# Altium schematic symbol library Kelboy.SchLib: 67 symbols (part 1 of 3)
Pins are listed as number, name and electrical type; pins without a type are passive.

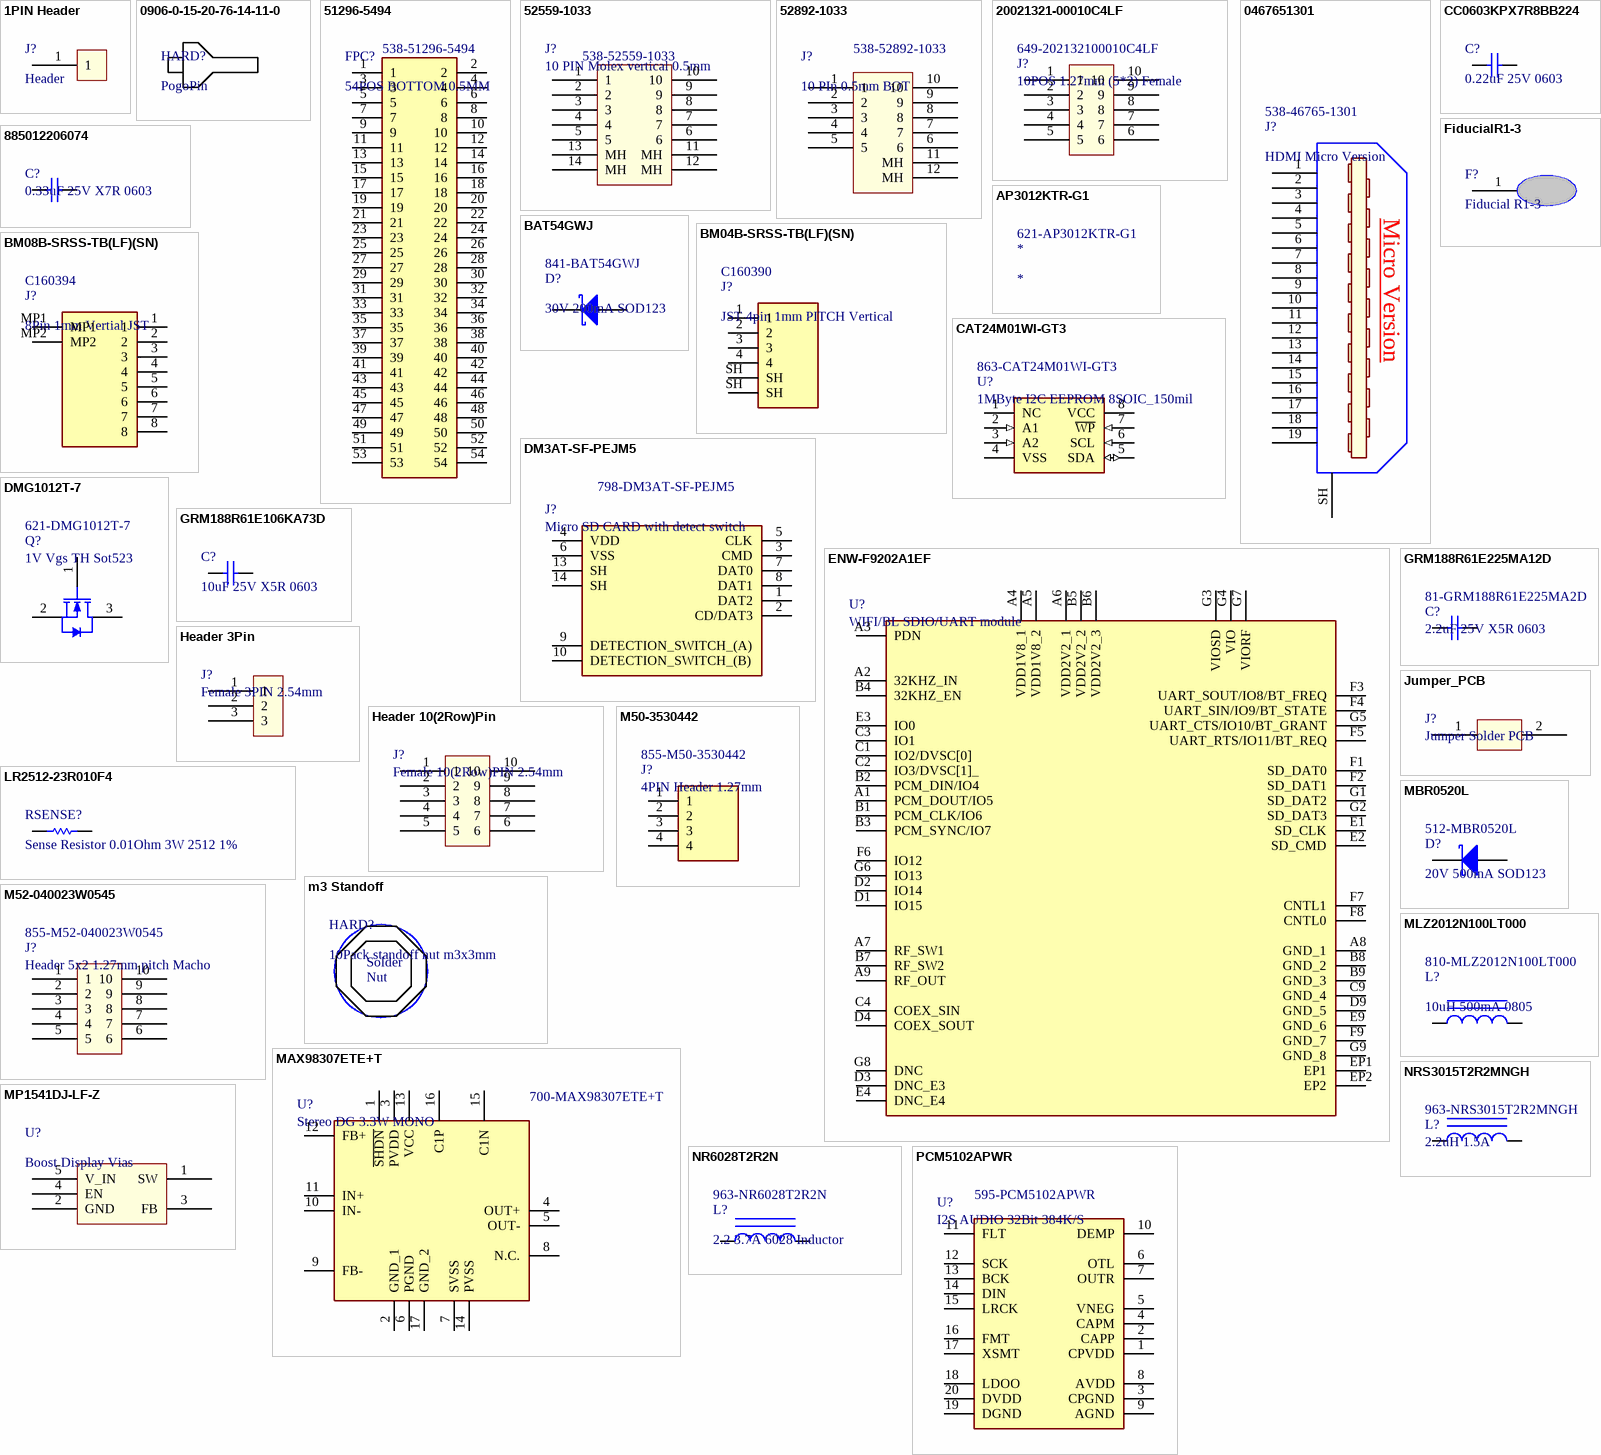
[diagram p0: symbols 1PIN Header to PCM5102APWR]

## 1PIN Header
designator J?, comment Header
footprint Header 2.54mm
pins: 1

## 0906-0-15-20-76-14-11-0
designator HARD?, comment PogoPin
CONN PIN SPRING-LOADED PCB GOLD; Manufacturer 1: Mill-Max; Manufacturer Part Number 1: 0906-0-15-20-76-14-11-0; Body Material: Brass; Current Rating: 2A; Resistance: 20mR; Number of Contacts: 2; Supplier 1: Mouser; Stock 1: 18180; Pricing 1: 1=0.35000, 10=0.35000, 50=0.32000, 100=0.31000, 250=0.29000, 500=0.27000, 1000=0.22900, 2500=0.20800, 10000=0.20800 (USD); RoHS: Yes; Mount: Through Hole; Case/Package: 0906; Contact Material: Copper Alloy; Contact Plating: Gold; Color: Gold; Material: Copper Alloy; Plating: Gold; Packaging: Bulk; Package Quantity: 500; Termination: Solder; Number of Rows: 1; Length: 0.137inch; Height: 0.206inch; REACH SVHC: No SVHC; Lead Free: Contains Lead; ComponentLink1URL: https://datasheet.ciiva.com/16427/0906-0-15-20-76-14-11-0-16427148.pdf?src-supplier=Future+Electronics; ComponentLink1Description: https://datasheet.ciiva.com/16427/0906-0-15-20-76-14-11-0-16427148.pdf?src-supplier=Future+Electronics; ComponentLink2URL: https://datasheet.ciiva.com/16886/70206242-16886092.pdf?src-supplier=Allied+Electronics; ComponentLink2Description: https://datasheet.ciiva.com/16886/70206242-16886092.pdf?src-supplier=Allied+Electronics; Supplier Part Number 1: 575-906015

## 51296-5494
designator FPC?, comment 54POS BOTTOM 0.5MM  Supplier Part Number 1: 538-51296-5494
FFC/FPC, RECEPTACLE, 54WAY - More Details; Manufacturer 1: Molex; Manufacturer Part Number 1: 51296-5494; Number of Contacts: 54; Current Rating: 500mA; Voltage Rating: 50V; Contact Resistance: 40mR; Mating Cycles: 20; Stackable: No; Supplier 1: Mouser; Stock 1: 16594; Pricing 1: 1=2.27000, 10=2.00000, 50=2.00000, 100=1.82000, 1000=1.32000, 10000=1.18000 (USD); RoHS: Yes; Contact Material: Bronze; Contact Plating: Gold; Housing Material: Polymer; Housing Color: Black; Color: Black; Min Operating Temperature: -20°C; Max Operating Temperature: 85°C; Number of Rows: 1; Orientation: Right Angle; Packaging: Tape and Reel; Number of Positions: 54; Termination: Solder; Package Quantity: 3000; Gender: Receptacle; Voltage Rating (DC): 50V; Number of Circuits: 54; Voltage Rating (AC): 50V; Contact Location: Bottom; Length: 30.7mm; Pitch: 0.5mm; Depth: 4.3mm; Radiation Hardening: No; REACH SVHC: Unknown; ComponentLink1URL: https://datasheet.ciiva.com/5137/0512965494-ffc-fpc-connectors-295716-5137504.pdf?src-supplier=Mouser; ComponentLink1Description: https://datasheet.ciiva.com/5137/0512965494-ffc-fpc-connectors-295716-5137504.pdf?src-supplier=Mouser; ComponentLink2URL: https://datasheet.ciiva.com/30258/0512965494-ffc-fpc-connectors-30258898.pdf?src-supplier=Onlinecomponents.com; ComponentLink2Description: https://datasheet.ciiva.com/30258/0512965494-ffc-fpc-connectors-30258898.pdf?src-supplier=Onlinecomponents.com; ComponentLink3URL: https://datasheet.ciiva.com/1438/1597707-1438182.pdf?src-supplier=Element14; ComponentLink3Description: https://datasheet.ciiva.com/1438/1597707-1438182.pdf?src-supplier=Element14; ComponentLink4URL: https://datasheet.ciiva.com/1484/512965494-sd-1484569.pdf?src-supplier=Newark; ComponentLink4Description: https://datasheet.ciiva.com/1484/512965494-sd-1484569.pdf?src-supplier=Newark; ComponentLink5URL: https://datasheet.ciiva.com/26929/getdatasheetpartid-763044-26929868.pdf?src-supplier=Verical; ComponentLink5Description: https://datasheet.ciiva.com/26929/getdatasheetpartid-763044-26929868.pdf?src-supplier=Verical; ComponentLink6URL: https://datasheet.ciiva.com/46408/1747841-46408806.pdf?src-supplier=Element14; ComponentLink6Description: https://datasheet.ciiva.com/46408/1747841-46408806.pdf?src-supplier=Element14; ComponentLink7URL: https://datasheet.ciiva.com/46408/1747841-46408807.pdf?src-supplier=Element14; ComponentLink7Description: https://datasheet.ciiva.com/46408/1747841-46408807.pdf?src-supplier=Element14; ComponentLink8URL: https://datasheet.ciiva.com/1447/1597707-1447164.pdf?src-supplier=Farnell; ComponentLink8Description: https://datasheet.ciiva.com/1447/1597707-1447164.pdf?src-supplier=Farnell; ComponentLink9URL: https://datasheet.ciiva.com/16123/0512965494-ffc-fpc-connectors-16123629.pdf?src-supplier=Onlinecomponents.com; ComponentLink9Description: https://datasheet.ciiva.com/16123/0512965494-ffc-fpc-connectors-16123629.pdf?src-supplier=Onlinecomponents.com
footprint 51296-5494
pins: 1, 2, 3, 4, 5, 6, 7, 8, 9, 10, 11, 12, 13, 14, 15, 16, 17, 18, 19, 20, 21, 22, 23, 24, 25, 26, 27, 28, 29, 30, 31, 32, 33, 34, 35, 36, 37, 38, 39, 40, 41, 42, 43, 44, 45, 46, 47, 48, 49, 50, 51, 52, 53, 54

## 52559-1033
designator J?, comment 10 PIN Molex vertical 0.5mm  Supplier Part Number 1: 538-52559-1033
FFC & FPC Connectors 0.5 FPC ZIF 10Ckt Sn-Ag-Bi; Manufacturer Part Number 1: 52559-1033; Number of Positions: 10; Voltage Rating: 50V; Current Rating: 500mA; Gender: Receptacle; Supplier 1: Mouser; Manufacturer 1: Molex; RoHS: Yes; Category: FFC / FPC; Stock 1: 5448; Pricing 1: 1=1,28000, 10=1,09000, 100=1,00000, 500=0,83300, 1000=0,71400, 2000=0,66700 (USD); Mount: Surface Mount; Contact Material: Bronze,Copper Alloy; Contact Plating: Tin,Silver; Housing Material: Nylon; Min Operating Temperature: -40°C; Max Operating Temperature: 85°C; Orientation: Straight; Termination: SMD/SMT; Packaging: Tape and Reel; Package Quantity: 1000; Number of Rows: 1; Number of Circuits: 10; Pitch: 0.5mm; Flammability Rating: UL94 V-0; REACH SVHC: No SVHC; ComponentLink1URL: https://datasheet.ciiva.com/24132/0525591033-ffc-fpc-connectors-294918-24132579.pdf?src-supplier=Mouser; ComponentLink1Description: https://datasheet.ciiva.com/24132/0525591033-ffc-fpc-connectors-294918-24132579.pdf?src-supplier=Mouser
footprint 52559-1033
pins: 1, 2, 3, 4, 5, 6, 7, 8, 9, 10, 11 MH, 12 MH, 13 MH, 14 MH

## 52892-1033
designator J?, comment 10 PIn 0.5mm BOT  Supplier Part Number 1: 538-52892-1033
Molex Easy-On Series 0.5mm Pitch 10 Way Right Angle FPC Connector, ZIF Bottom Contact; Manufacturer Part Number: 52892-1033; Voltage Rating: 50V; Current Rating: 500mA; Number of Positions: 10; Gender: Receptacle; Stackable: No; Supplier 1: Mouser; Manufacturer: Molex; RoHS: Yes; Category: FFC / FPC; Stock 1: 751; Pricing 1: 1=0,76000, 10=0,64000, 100=0,58400, 500=0,48700, 1000=0,41700, 2000=0,39000 (USD); Housing Material: Nylon; Contact Material: Bronze; Contact Plating: Tin,Silver; Min Operating Temperature: -40°C; Max Operating Temperature: 85°C; Package Quantity: 1000; Number of Rows: 1; Packaging: Tape and Reel; Termination: SMD/SMT; Orientation: Right Angle; Number of Circuits: 10; Contact Location: Bottom; Number of Contacts: 10; Pitch: 0.5mm; Flammability Rating: UL94 V-0; REACH SVHC: Unknown; ComponentLink1URL: https://datasheet.ciiva.com/24132/0528921033-ffc-fpc-connectors-295499-24132707.pdf?src-supplier=Mouser; ComponentLink1Description: https://datasheet.ciiva.com/24132/0528921033-ffc-fpc-connectors-295499-24132707.pdf?src-supplier=Mouser; ComponentLink2URL: https://datasheet.ciiva.com/23963/1752231-23963980.pdf?src-supplier=Newark; ComponentLink2Description: https://datasheet.ciiva.com/23963/1752231-23963980.pdf?src-supplier=Newark
footprint 0528921033
pins: 1, 2, 3, 4, 5, 6, 7, 8, 9, 10, 11 MH, 12 MH

## 20021321-00010C4LF
designator J?, comment 10POS 1.27mm (5*2) Female  Supplier Part Number 1: 649-202132100010C4LF
CONN RCPT 10POS 0.05 GOLD SMD; Manufacturer 1: Amphenol FCI; Manufacturer Part Number 1: 20021321-00010C4LF; Number of Contacts: 10; Contact Resistance: 30mR; Current Rating: 1A; Voltage Rating: 125V; Connector Type: Receptacle,Socket; Gender: Receptacle; Insulation Resistance: 100MR; Row Spacing: 0.05inch; Stack Height: 4.3mm; Supplier 1: Mouser; Stock 1: 948; Pricing 1: 1=0,92000, 10=0,72700, 100=0,69600, 250=0,63200, 700=0,56900, 1400=0,50600, 2100=0,45900 (USD); RoHS: Yes; Mount: Surface Mount; Contact Plating: Gold; Contact Material: Copper,Copper Alloy,Gold; Color: Black; Housing Color: Black; Housing Material: Thermoplastic; Min Operating Temperature: -40°C; Max Operating Temperature: 85°C; Number of Rows: 2; Termination: Solder; Package Quantity: 700; Packaging: Tape and Reel; Number of Positions: 10; Max Voltage Rating (AC): 125V; Orientation: Straight; Length: 13.16mm; Pitch: 1.27mm; Depth: 3mm; REACH SVHC: No SVHC; Lead Free: Lead Free; ComponentLink1URL: https://datasheet.ciiva.com/411/20021321-411104.pdf?src-supplier=Digi-Key; ComponentLink1Description: https://datasheet.ciiva.com/411/20021321-411104.pdf?src-supplier=Digi-Key; ComponentLink2URL: https://datasheet.ciiva.com/11747/0900766b8118d62a-11747747.pdf?src-supplier=RSComponents; ComponentLink2Description: https://datasheet.ciiva.com/11747/0900766b8118d62a-11747747.pdf?src-supplier=RSComponents; ComponentLink3URL: https://datasheet.ciiva.com/30492/0900766b812a317f-30492469.pdf?src-supplier=RSComponents; ComponentLink3Description: https://datasheet.ciiva.com/30492/0900766b812a317f-30492469.pdf?src-supplier=RSComponents; ComponentLink4URL: https://datasheet.ciiva.com/1433/789047-1433379.pdf?src-supplier=Element14; ComponentLink4Description: https://datasheet.ciiva.com/1433/789047-1433379.pdf?src-supplier=Element14; ComponentLink5URL: https://datasheet.ciiva.com/10140/20021321-10140677.pdf?src-supplier=Avnet; ComponentLink5Description: https://datasheet.ciiva.com/10140/20021321-10140677.pdf?src-supplier=Avnet; ComponentLink6URL: https://datasheet.ciiva.com/15219/getdatasheetpartid-177147-15219436.pdf?src-supplier=Verical; ComponentLink6Description: https://datasheet.ciiva.com/15219/getdatasheetpartid-177147-15219436.pdf?src-supplier=Verical; ComponentLink7URL: https://datasheet.ciiva.com/411/20021321-411102.pdf?src-supplier=Digi-Key; ComponentLink7Description: https://datasheet.ciiva.com/411/20021321-411102.pdf?src-supplier=Digi-Key; ComponentLink8URL: https://datasheet.ciiva.com/411/20021321-411103.pdf?src-supplier=Digi-Key; ComponentLink8Description: https://datasheet.ciiva.com/411/20021321-411103.pdf?src-supplier=Digi-Key
footprint 2002132100010C4LF
pins: 1, 2, 3, 4, 5, 6, 7, 8, 9, 10

## 0467651301
designator J?, comment HDMI Micro Version  Supplier Part Number 1: 538-46765-1301
GLOVE, POLYAMIDE, L/FREE, PU, SIZE 6 - More Details; Manufacturer: Molex; Manufacturer Part Number: 0467651301; Gender: Receptacle; Number of Contacts: 19; Number of Ports: 1; Pitch: 0.4mm; Supplier 1: Mouser; RoHS: Yes; Category: Connectors; Stock 1: 7759; Mount: Surface Mount,Horizontal; Contact Material: Copper Alloy; Contact Plating: Gold; Housing Material: Thermoplastic; Number of Terminals: 19; Package Quantity: 1000; Orientation: Right Angle; Termination: Solder; Packaging: Tape and Reel; Connector Type: HDMI; Features: Shielded; Length: 6.5mm; Depth: 7.5mm; Radiation Hardening: No; ComponentLink1URL: https://datasheet.ciiva.com/2944/467651301-sd-2944003.pdf?src-supplier=Digi-Key; ComponentLink1Description: https://datasheet.ciiva.com/2944/467651301-sd-2944003.pdf?src-supplier=Digi-Key; ComponentLink2URL: https://datasheet.ciiva.com/10945/0467651301-io-connectors-10945127.pdf?src-supplier=Avnet; ComponentLink2Description: https://datasheet.ciiva.com/10945/0467651301-io-connectors-10945127.pdf?src-supplier=Avnet; ComponentLink3URL: https://datasheet.ciiva.com/16468/0467651301-io-connectors-16468205.pdf?src-supplier=Avnet+Asia; ComponentLink3Description: https://datasheet.ciiva.com/16468/0467651301-io-connectors-16468205.pdf?src-supplier=Avnet+Asia
footprint 46765-1301
pins: 1 P1, 2 P2, 3 P3, 4 P4, 5 P5, 6 P6, 7 P7, 8 P8, 9 P9, 10 P10, 11 P11, 12 P12, 13 P13, 14 P14, 15 P15, 16 P16, 17 P17, 18 P18, 19 P19, SH
text: Micro Version

## 885012206074
designator C?, comment 0.33uF 25V X7R 0603
CAP CER 0.33UF 25V X7R 0603; Manufacturer 1: Wurth Electronics; Manufacturer Part Number 1: 885012206074; Capacitance: 330nF; Tolerance: 10%; Supplier 1: Mouser; RoHS: Yes; Category: Ceramic Capacitors; Stock 1: 4921; Pricing 1: 1=0,10000, 10=0,08100, 25=0,08100, 50=0,08100, 100=0,07300, 250=0,07300 (USD); Mount: Surface Mount; Case/Package: 0603; Case Code (Metric): 1608; Case Code (Imperial): 0603; Min Operating Temperature: -55°C; Max Operating Temperature: 125°C; Packaging: Tape and Reel; Voltage Rating: 25V; Length: 0.063inch; Width: 0.031inch; Thickness: 0.037inch; ComponentLink1URL: http://www.farnell.com/datasheets/2031845.pdf?src-supplier=Farnell; ComponentLink1Description: http://www.farnell.com/datasheets/2031845.pdf?src-supplier=Farnell; ComponentLink2URL: https://katalog.we-online.de/pbs/datasheet/885012206074.pdf?src-supplier=Digi-Key; ComponentLink2Description: https://katalog.we-online.de/pbs/datasheet/885012206074.pdf?src-supplier=Digi-Key; ComponentLink3URL: http://www.farnell.com/datasheets/2031845.pdf?src-supplier=Newark; ComponentLink3Description: http://www.farnell.com/datasheets/2031845.pdf?src-supplier=Newark; Supplier Part Number 1: 710-885012206074
footprint C 0603/1608
pins: 1, 2

## AP3012KTR-G1
designator *  Supplier Part Number 1: 621-AP3012KTR-G1
IC REG BOOST ADJ 0.5A SOT25; Manufacturer 1: Diodes; Manufacturer Part Number 1: AP3012KTR-G1; Number of Outputs: 1; Max Output Current: 500mA; Min Input Voltage: 2.6V; Max Input Voltage: 16V; Efficiency: 85%; Min Output Voltage: 1.25V; Max Output Voltage: 29V; Switching Frequency: 1.5MHz; Synchronous Rectifier: No; Operating Supply Current: 100nA; Min Supply Voltage: 1V; Output Type: Adjustable; Output Configuration: Positive; Supplier 1: Mouser; Stock 1: 41607; Pricing 1: 1=0.47000, 10=0.35500, 50=0.35500, 100=0.19200, 1000=0.14400, 3000=0.12400, 9000=0.11600, 10000=0.11600 (USD); RoHS: Yes; Mount: Surface Mount; Case/Package: SOT-23-5; Number of Pins: 5; Weight: 0.001058oz; Min Operating Temperature: -40°C; Max Operating Temperature: 85°C; Packaging: Tape and Reel; Package Quantity: 3000; Output Current: 500mA; Output Voltage: 29V; Topology: Boost; Operating Supply Voltage: 16V; Lead Free: Lead Free; ComponentLink1URL: https://datasheet.ciiva.com/29885/ap3012-29885792.pdf?src-supplier=Avnet; ComponentLink1Description: https://datasheet.ciiva.com/29885/ap3012-29885792.pdf?src-supplier=Avnet; ComponentLink2URL: https://datasheet.ciiva.com/29735/ap3012-29735077.pdf?src-supplier=Digi-Key; ComponentLink2Description: https://datasheet.ciiva.com/29735/ap3012-29735077.pdf?src-supplier=Digi-Key; ComponentLink3URL: https://datasheet.ciiva.com/29735/ap3012-29735068.pdf?src-supplier=Digi-Key; ComponentLink3Description: https://datasheet.ciiva.com/29735/ap3012-29735068.pdf?src-supplier=Digi-Key

## BAT54GWJ
designator D?, comment 30V 200mA SOD123  Supplier Part Number 1: 841-BAT54GWJ
DIODE SCHOTTKY 30V 200MA SOD123; Manufacturer 1: Nexperia USA; Manufacturer Part Number 1: BAT54GWJ; Supplier 1: Mouser; Stock 1: 45651; Pricing 1: 1=0.14000, 10=0.12500, 50=0.12500, 100=0.04400, 1000=0.03000, 2500=0.02300, 10000=0.02000, 20000=0.01800, 50000=0.01600, 100000=0.01300 (USD); RoHS: No; ComponentLink1URL: https://assets.nexperia.com/documents/data-sheet/BAT54GW.pdf?src-supplier=Digi-Key; ComponentLink1Description: https://assets.nexperia.com/documents/data-sheet/BAT54GW.pdf?src-supplier=Digi-Key
footprint SOD-123
pins: 1 K, 2 A

## BM04B-SRSS-TB(LF)(SN)
designator J?, comment JST 4pin 1mm PITCH Vertical  Supplier Part Number 1: C160390
CONN HEADER SMD 4POS 1MM; Manufacturer Part Number: BM04B-SRSS-TB(LF)(SN); Connector Type: Male Pin; Number of Positions: 4; Current Rating: 1A; Insulation Resistance: 100MR; Max Voltage Rating (AC): 50V; Gender: Male; Contact Resistance: 40mR; Pitch: 0.039inch; Supplier 1: LCSC; Manufacturer: JST; RoHS: Yes; Category: Connectors; Stock 1: 26755; Pricing 1: 1=0,24290, 10=0,17350, 30=0,16100, 100=0,14850, 500=0,14020, 1000=0,13880, 1=0,22820, 10=0,16300, 30=0,15130, 100=0,13960, 500=0,13170, 1000=0,13040, 1=1,18090, 10=0,84350, 30=0,78280, 100=0,72200, 500=0,68150, 1000=0,67480, 1=1,10690, 10=0,79070, 30=0,73370, 100=0,67680, 500=0,63890, 1000=0,63250, 1=0,14850, 10=0,10610, 30=0,09850, 100=0,09080, 500=0,08570, 1000=0,08490, 1=0,13570, 10=0,09700, 30=0,09000, 100=0,08300, 500=0,07830, 1000=0,07760, 1=1,29470, 10=0,92480, 30=0,85820, 100=0,79160, 500=0,74720, 1000=0,73980, 1=17,98870, 10=12,84910, 30=11,92400, 100=10,99880, 500=10,38210, 1000=10,27940, 1=0,71530, 10=0,51090, 30=0,47410, 100=0,43730, 500=0,41280, 1000=0,40870, 1=11,69450, 10=8,35320, 30=7,75180, 100=7,15030, 500=6,74940, 1000=6,68260, 1=1,55810, 10=1,11290, 30=1,03280, 100=0,95270, 500=0,89920, 1000=0,89030, 1=0,23270, 10=0,16620, 30=0,15430, 100=0,14230, 500=0,13430, 1000=0,13300, 1=0,16705, 10=0,11932, 30=0,11073, 100=0,10214, 500=0,09641, 1000=0,09546 (AUD); Mount: Surface Mount; Contact Plating: Tin,Lead,Copper; Contact Material: Copper Alloy; Color: Natural; Housing Material: Polyamide; Housing Color: Beige; Material: Polyamide; Min Operating Temperature: -25°C; Max Operating Temperature: 85°C; Termination: Solder; Number of Rows: 1; Orientation: Straight; Number of Contacts: 4; Packaging: Tape and Reel; Max Voltage Rating (DC): 50V; Voltage Rating (AC): 50V; Max Current Rating: 1A; Length: 6mm; Depth: 2.9mm; Lead Pitch: 1mm; Lead Free: Lead Free; Flammability Rating: UL94 V-0; REACH SVHC: No SVHC; ComponentLink1URL: https://datasheet.ciiva.com/26894/getdatasheetpartid-690899-26894827.pdf?src-supplier=Verical; ComponentLink1Description: https://datasheet.ciiva.com/26894/getdatasheetpartid-690899-26894827.pdf?src-supplier=Verical; ComponentLink2URL: https://datasheet.ciiva.com/26924/getdatasheetpartid-708793-26924043.pdf?src-supplier=Verical; ComponentLink2Description: https://datasheet.ciiva.com/26924/getdatasheetpartid-708793-26924043.pdf?src-supplier=Verical; ComponentLink3URL: https://datasheet.ciiva.com/16211/esr-16211085.pdf?src-supplier=Future+Electronics; ComponentLink3Description: https://datasheet.ciiva.com/16211/esr-16211085.pdf?src-supplier=Future+Electronics
footprint BM04B-SRSS-TB(LF)(SN)
pins: 1, 2, 3, 4, SH, SH

## BM08B-SRSS-TB(LF)(SN)
designator J?, comment 8Pin 1mm Vertial JST  Supplier Part Number 1: C160394
JST (JAPAN SOLDERLESS TERMINALS) - BM08B-SRSS-TB(LF)(SN) - Wire-To-Board Connector, 1 mm, 8 Contacts, Header, SH Series, Surface Mount, 1 Rows; Number of Contacts: 8; Voltage Rating: 50V; Connector Type: Header,Male Pin; Current Rating: 700mA; Contact Resistance: 40mR; Max Current Rating: 1A; Gender: Male; Insulation Resistance: 100MR; Pitch: 0.039inch; Supplier 1: LCSC; Manufacturer: JST; Manufacturer Part Number: BM08B-SRSS-TB(LF)(SN); RoHS: Yes; Category: Headers and Wire Housings; Stock 1: 70292; Pricing 1: 1=0,42400, 10=0,30620, 30=0,28500, 100=0,26380, 500=0,24970, 1000=0,24730, 1=0,40380, 10=0,29160, 30=0,27140, 100=0,25130, 500=0,23780, 1000=0,23560, 1=2,07910, 10=1,50150, 30=1,39760, 100=1,29370, 500=1,22440, 1000=1,21280, 1=1,93890, 10=1,40030, 30=1,30340, 100=1,20650, 500=1,14180, 1000=1,13110, 1=0,26040, 10=0,18800, 30=0,17500, 100=0,16200, 500=0,15330, 1000=0,15190, 1=0,23610, 10=0,17050, 30=0,15870, 100=0,14690, 500=0,13910, 1000=0,13770, 1=2,30240, 10=1,66280, 30=1,54770, 100=1,43260, 500=1,35590, 1000=1,34310, 1=31,85760, 10=23,00790, 30=21,41530, 100=19,82270, 500=18,76100, 1000=18,58400, 1=1,26650, 10=0,91470, 30=0,85130, 100=0,78800, 500=0,74580, 1000=0,73880, 1=21,06550, 10=15,21380, 30=14,16070, 100=13,10760, 500=12,40550, 1000=12,28850, 1=2,69630, 10=1,94730, 30=1,81250, 100=1,67770, 500=1,58790, 1000=1,57290, 1=0,41310, 10=0,29840, 30=0,27770, 100=0,25710, 500=0,24330, 1000=0,24100, 1=0,29705, 10=0,21453, 30=0,19968, 100=0,18483, 500=0,17493, 1000=0,17328 (AUD); Mount: Surface Mount; Contact Material: Copper Alloy; Housing Color: Beige; Housing Material: Polyamide; Color: Natural; Contact Plating: Tin,Copper,Lead; Contact Shape: Square; Insulation Material: Nylon; Insulation Color: Natural; Material: Polyamide; Min Operating Temperature: -25°C; Max Operating Temperature: 85°C; Orientation: Straight; Number of Rows: 1; Termination: Solder; Packaging: Tape and Reel; Number of Positions: 8; Fastening Type: Push,Pull; Voltage Rating (AC): 50V; Max Voltage Rating (AC): 50V; Length: 10mm; Lead Pitch: 1mm; Depth: 2.9mm; Lead Free: Lead Free; Flammability Rating: UL94 V-0; REACH SVHC: No SVHC; ComponentLink1URL: https://datasheet.ciiva.com/26894/getdatasheetpartid-640965-26894529.pdf?src-supplier=Verical; ComponentLink1Description: https://datasheet.ciiva.com/26894/getdatasheetpartid-640965-26894529.pdf?src-supplier=Verical; ComponentLink2URL: https://datasheet.ciiva.com/730/esr-730608.pdf?src-supplier=Digi-Key; ComponentLink2Description: https://datasheet.ciiva.com/730/esr-730608.pdf?src-supplier=Digi-Key; ComponentLink3URL: https://datasheet.ciiva.com/712/esr-712616.pdf?src-supplier=Digi-Key; ComponentLink3Description: https://datasheet.ciiva.com/712/esr-712616.pdf?src-supplier=Digi-Key; ComponentLink4URL: https://datasheet.ciiva.com/712/esr-712617.pdf?src-supplier=Digi-Key; ComponentLink4Description: https://datasheet.ciiva.com/712/esr-712617.pdf?src-supplier=Digi-Key; ComponentLink5URL: https://datasheet.ciiva.com/8052/91630-8052091.pdf?src-supplier=Element14; ComponentLink5Description: https://datasheet.ciiva.com/8052/91630-8052091.pdf?src-supplier=Element14; ComponentLink6URL: https://datasheet.ciiva.com/16380/esr-16380526.pdf?src-supplier=Future+Electronics; ComponentLink6Description: https://datasheet.ciiva.com/16380/esr-16380526.pdf?src-supplier=Future+Electronics
footprint BM08BSRSSTBLFSN
pins: 1, 2, 3, 4, 5, 6, 7, 8, MP1, MP2

## CAT24M01WI-GT3
designator U?, comment 1MByte I2C EEPROM 8SOIC_150mil  Supplier Part Number 1: 863-CAT24M01WI-GT3
IC EEPROM 1M I2C 1MHZ 8SOIC; Manufacturer 1: ON Semiconductor; Manufacturer Part Number 1: CAT24M01WI-GT3; Access Time: 3500ns; Interface: I2C,Serial,2-Wire; Max Supply Voltage: 5.5V; Min Supply Voltage: 1.8V; Nominal Supply Current: 5mA; Density: 1Mb; Number of Words: 128000; Max Frequency: 400kHz; Supplier 1: Mouser; RoHS: Yes; Category: EEPROM; Stock 1: 4192; Pricing 1: 1=1,32000, 10=1,12000, 100=0,86500, 500=0,76400, 1000=0,60300, 3000=0,53500 (USD); Mount: Surface Mount; Case/Package: SOIC; Number of Pins: 8; Contact Plating: Gold; Min Operating Temperature: -40°C; Max Operating Temperature: 85°C; Packaging: Tape and Reel; Frequency: 1MHz; Package Quantity: 1; Memory Size: 1Mb; Memory Type: EEPROM; Length: 5mm; Height: 1.5mm; Width: 4mm; Radiation Hardening: No; REACH SVHC: No SVHC; Lead Free: Lead Free; Halogen Free: Halogen Free; ComponentLink1URL: https://datasheet.ciiva.com/4860/cat24m01-d-91485-4860161.pdf?src-supplier=Mouser; ComponentLink1Description: https://datasheet.ciiva.com/4860/cat24m01-d-91485-4860161.pdf?src-supplier=Mouser; ComponentLink2URL: https://datasheet.ciiva.com/9282/cat24m01-d-9282465.pdf?src-supplier=Avnet; ComponentLink2Description: https://datasheet.ciiva.com/9282/cat24m01-d-9282465.pdf?src-supplier=Avnet; ComponentLink3URL: https://datasheet.ciiva.com/15123/getdatasheetpartid-494748-15123685.pdf?src-supplier=Verical; ComponentLink3Description: https://datasheet.ciiva.com/15123/getdatasheetpartid-494748-15123685.pdf?src-supplier=Verical; ComponentLink4URL: https://datasheet.ciiva.com/25627/0900766b810de29e-25627741.pdf?src-supplier=RSComponents; ComponentLink4Description: https://datasheet.ciiva.com/25627/0900766b810de29e-25627741.pdf?src-supplier=RSComponents; ComponentLink5URL: https://datasheet.ciiva.com/1905/cat24m01-d-1905206.pdf?src-supplier=Digi-Key; ComponentLink5Description: https://datasheet.ciiva.com/1905/cat24m01-d-1905206.pdf?src-supplier=Digi-Key; ComponentLink6URL: https://datasheet.ciiva.com/1905/cat24m01-d-1905207.pdf?src-supplier=Digi-Key; ComponentLink6Description: https://datasheet.ciiva.com/1905/cat24m01-d-1905207.pdf?src-supplier=Digi-Key; ComponentLink7URL: https://datasheet.ciiva.com/1905/cat24m01-d-1905208.pdf?src-supplier=Digi-Key; ComponentLink7Description: https://datasheet.ciiva.com/1905/cat24m01-d-1905208.pdf?src-supplier=Digi-Key; ComponentLink8URL: https://datasheet.ciiva.com/26216/cat24m01-d-26216681.pdf?src-supplier=Avnet+Europe; ComponentLink8Description: https://datasheet.ciiva.com/26216/cat24m01-d-26216681.pdf?src-supplier=Avnet+Europe; ComponentLink9URL: https://datasheet.ciiva.com/5819/1678492-5819613.pdf?src-supplier=Farnell; ComponentLink9Description: https://datasheet.ciiva.com/5819/1678492-5819613.pdf?src-supplier=Farnell; ComponentLink10URL: https://datasheet.ciiva.com/16380/cat24m01-d-16380927.pdf?src-supplier=Future+Electronics; ComponentLink10Description: https://datasheet.ciiva.com/16380/cat24m01-d-16380927.pdf?src-supplier=Future+Electronics
footprint SOIC-8_150mil (Footprint not found)
pins: 1 NC, 2 A1 (in), 3 A2 (in), 4 VSS (power), 5 SDA (io), 6 SCL (in), 7 ~{WP} (in), 8 VCC (power)

## CC0603KPX7R8BB224
designator C?, comment 0.22uF 25V 0603
Condensadores de cerámica multicapa (MLCC- SMD/SMT) 0.22uF 10% 25V High Capacitance; Manufacturer 1: Yageo; Manufacturer Part Number 1: CC0603KPX7R8BB224; Dielectric: X7R; Capacitance: 220nF; Supplier 1: Mouser; Stock 1: 14370; Pricing 1: 1=0.17000, 10=0.08700, 50=0.08700, 100=0.03900, 1000=0.03200, 10000=0.02200 (USD); RoHS: No; Case/Package: 0603; Voltage Rating (DC): 25V; Tolerance: 10%; Lead Free: Lead Free; Halogen Free: Halogen Free; Supplier Part Number 1: 603-CC0603KPX78BB224
footprint C 0603/1608
pins: 1, 2

## DM3AT-SF-PEJM5
designator J?, comment Micro SD CARD with detect switch  Supplier Part Number 1: 798-DM3AT-SF-PEJM5
CONN MICRO SD CARD PUSH-PUSH R/A; Manufacturer 1: Hirose; Manufacturer Part Number 1: DM3AT-SF-PEJM5; Connector Type: Connector; Number of Contacts: 8; Current Rating: 500mA; Voltage Rating: 125V; Gender: Female; Pitch: 1.1mm; Supplier 1: Mouser; RoHS: Yes; Category: Card Edge Connectors; Stock 1: 5089; Pricing 1: 1=2,61000, 10=2,32000, 25=2,13000, 100=2,03000, 250=1,84000, 500=1,69000 (USD); Mount: Surface Mount,Standard; Contact Plating: Gold; Contact Material: Copper Alloy; Housing Material: Polymer; Min Operating Temperature: -25°C; Max Operating Temperature: 85°C; Packaging: Tape and Reel; Number of Rows: 1; Package Quantity: 1; Orientation: Right Angle; Termination: SMD/SMT; Max Current Rating: 500mA; Max Voltage Rating (AC): 125V; Number of Positions: 8; Length: 15.95mm; Height: 1.68mm; Width: 13.85mm; Depth: 15.95mm; Radiation Hardening: No; Flammability Rating: UL94 V-0; REACH SVHC: No SVHC; Lead Free: Lead Free; ComponentLink1URL: https://datasheet.ciiva.com/683/e60900232-683393.pdf?src-supplier=Digi-Key; ComponentLink1Description: https://datasheet.ciiva.com/683/e60900232-683393.pdf?src-supplier=Digi-Key; ComponentLink2URL: https://datasheet.ciiva.com/683/e60900232-683394.pdf?src-supplier=Digi-Key; ComponentLink2Description: https://datasheet.ciiva.com/683/e60900232-683394.pdf?src-supplier=Digi-Key; ComponentLink3URL: https://datasheet.ciiva.com/683/e60900232-683395.pdf?src-supplier=Digi-Key; ComponentLink3Description: https://datasheet.ciiva.com/683/e60900232-683395.pdf?src-supplier=Digi-Key; ComponentLink4URL: https://datasheet.ciiva.com/46418/1697167-46418261.pdf?src-supplier=Element14; ComponentLink4Description: https://datasheet.ciiva.com/46418/1697167-46418261.pdf?src-supplier=Element14; ComponentLink5URL: https://datasheet.ciiva.com/3122/e60900232-3122534.pdf?src-supplier=Avnet; ComponentLink5Description: https://datasheet.ciiva.com/3122/e60900232-3122534.pdf?src-supplier=Avnet; ComponentLink6URL: https://datasheet.ciiva.com/46418/1697167-46418262.pdf?src-supplier=Element14; ComponentLink6Description: https://datasheet.ciiva.com/46418/1697167-46418262.pdf?src-supplier=Element14; ComponentLink7URL: https://datasheet.ciiva.com/16205/e60900232-16205727.pdf?src-supplier=Future+Electronics; ComponentLink7Description: https://datasheet.ciiva.com/16205/e60900232-16205727.pdf?src-supplier=Future+Electronics
footprint DM3AT-SF-PEJM5_1
pins: 1 DAT2, 2 CD/DAT3, 3 CMD, 4 VDD, 5 CLK, 6 VSS, 7 DAT0, 8 DAT1, 9 DETECTION_SWITCH_(A), 10 DETECTION_SWITCH_(B), 13 SH, 14 SH

## DMG1012T-7
designator Q?, comment 1V Vgs TH Sot523  Supplier Part Number 1: 621-DMG1012T-7
MOSFET N-CH 20V 630MA SOT-523; Manufacturer 1: Diodes; Manufacturer Part Number 1: DMG1012T-7; Rds On Max: 400mR; Input Capacitance: 60.67pF; Max Power Dissipation: 280mW; Rise Time: 7.4ns; Fall Time: 12.3ns; Turn-On Delay Time: 5.1ns; Turn-Off Delay Time: 26.7ns; Gate to Source Voltage (Vgs): 6V; Number of Elements: 1; Drain to Source Resistance: 300mR; Element Configuration: Single; FET Type: 1 N-Channel; Supplier 1: Mouser; RoHS: Yes; Category: MOSFETs; Stock 1: 505154; Pricing 1: 1=0,29000, 10=0,19800, 100=0,08300, 1000=0,05700, 3000=0,04400, 9000=0,03800 (USD); Mount: Surface Mount; Case/Package: SOT-523; Number of Pins: 3; Weight: 7.1E-05oz; Contact Plating: Tin,Matte; Min Operating Temperature: -55°C; Max Operating Temperature: 150°C; Continuous Drain Current (ID): 630mA; Packaging: Tape and Reel; Drain to Source Voltage (Vdss): 20V; Package Quantity: 3000; Drain to Source Breakdown Voltage: 20V; Power Dissipation: 280mW; Number of Channels: 1; Threshold Voltage: 1V; On-State Resistance: 400MR; Length: 1.7mm; Height: 0.8mm; Width: 0.85mm; Radiation Hardening: No; REACH SVHC: No SVHC; Lead Free: Lead Free; ComponentLink1URL: https://datasheet.ciiva.com/934/ds31783-934512.pdf?src-supplier=Digi-Key; ComponentLink1Description: https://datasheet.ciiva.com/934/ds31783-934512.pdf?src-supplier=Digi-Key; ComponentLink2URL: https://datasheet.ciiva.com/4442/ds31783-44973-4442944.pdf?src-supplier=Mouser; ComponentLink2Description: https://datasheet.ciiva.com/4442/ds31783-44973-4442944.pdf?src-supplier=Mouser; ComponentLink3URL: https://datasheet.ciiva.com/11174/ds31783-11174965.pdf?src-supplier=Avnet; ComponentLink3Description: https://datasheet.ciiva.com/11174/ds31783-11174965.pdf?src-supplier=Avnet; ComponentLink4URL: https://datasheet.ciiva.com/17324/ds31783-17324010.pdf?src-supplier=Avnet+Europe; ComponentLink4Description: https://datasheet.ciiva.com/17324/ds31783-17324010.pdf?src-supplier=Avnet+Europe; ComponentLink5URL: https://datasheet.ciiva.com/6383/ds31783-6383803.pdf?src-supplier=Digi-Key; ComponentLink5Description: https://datasheet.ciiva.com/6383/ds31783-6383803.pdf?src-supplier=Digi-Key; ComponentLink6URL: https://datasheet.ciiva.com/934/ds31783-934511.pdf?src-supplier=Digi-Key; ComponentLink6Description: https://datasheet.ciiva.com/934/ds31783-934511.pdf?src-supplier=Digi-Key
footprint SOT-523-3
pins: 1 G, 2 S, 3 D

## ENW-F9202A1EF
designator U?, comment WIFI/BL SDIO/UART module
PAN9026, WI-FI DUAL BAND 2.4/5 G; Manufacturer 1: Panasonic; Manufacturer Part Number 1: ENW-F9202A1EF; Interface: UART; Frequency: 5GHz; Data Rate: 150Mbps; Sensitivity: -98dBm; Current - Receiving: 70mA; Current - Transmitting: 400mA; Supplier 1: Mouser; Stock 1: 199; Pricing 1: 1=17,32000, 5=16,96000, 10=15,98000, 25=14,58000, 50=14,07000, 100=13,42000, 250=12,80000, 500=12,12000, 1000=11,13000, 10000=12,12000 (USD); RoHS: No; Mount: Surface Mount; Case/Package: SMD/SMT; Min Operating Temperature: -30°C; Max Operating Temperature: 85°C; ComponentLink1URL: https://media.digikey.com/pdf/Data%20Sheets/Panasonic%20Semiconductors%20ICs%20PDFs/PAN9026_Series_Rev1.0.pdf?src-supplier=Digi-Key; ComponentLink1Description: https://media.digikey.com/pdf/Data%20Sheets/Panasonic%20Semiconductors%20ICs%20PDFs/PAN9026_Series_Rev1.0.pdf?src-supplier=Digi-Key; Supplier Part Number 1: 667-ENW-F9202A1EF
footprint ENWF9201A1EF
pins: A1 PCM_DOUT/IO5, A2 32KHZ_IN, A3 PDN, A4 VDD1V8_1, A5 VDD1V8_2, A6 VDD2V2_1, A7 RF_SW1, A8 GND_1, A9 RF_OUT, B1 PCM_CLK/IO6, B2 PCM_DIN/IO4, B3 PCM_SYNC/IO7, B4 32KHZ_EN, B5 VDD2V2_2, B6 VDD2V2_3, B7 RF_SW2, B8 GND_2, B9 GND_3, C1 IO2/DVSC[0], C2 IO3/DVSC[1]_, C3 IO1, C4 COEX_SIN, C9 GND_4, D1 IO15, D2 IO14, D3 DNC_E3, D4 COEX_SOUT, D9 GND_5, E1 SD_CLK, E2 SD_CMD, E3 IO0, E4 DNC_E4, E9 GND_6, EP1, EP2, F1 SD_DAT0, F2 SD_DAT1, F3 UART_SOUT/IO8/BT_FREQ, F4 UART_SIN/IO9/BT_STATE, F5 UART_RTS/IO11/BT_REQ, F6 IO12, F7 CNTL1, F8 CNTL0, F9 GND_7, G1 SD_DAT2, G2 SD_DAT3, G3 VIOSD, G4 VIO, G5 UART_CTS/IO10/BT_GRANT, G6 IO13, G7 VIORF, G8 DNC, G9 GND_8

## FiducialR1-3
designator F?, comment Fiducial R1-3  (no BOM)
Fiducial 1mm 3 mm of peel mask
footprint Fiducial R1-3
pins: 1

## GRM188R61E106KA73D
designator C?, comment 10uF 25V X5R 0603
Cap Ceramic 10uF 25V X5R 10% SMD 0603 85°C Paper T/R; Manufacturer 1: Murata; Manufacturer Part Number 1: GRM188R61E106KA73D; Supplier 1: Mouser; Stock 1: 265910; Pricing 1: 1=0.37000, 10=0.25900, 50=0.25900, 100=0.15500, 500=0.11600, 1000=0.09800, 4000=0.07600, 8000=0.07000, 10000=0.07000, 12000=0.06300 (USD); RoHS: No; Case/Package: 0603; Supplier Part Number 1: 81-GRM188R61E106KA3D
footprint C 0603/1608
pins: 1, 2

## GRM188R61E225MA12D
designator C?, comment 2.2uF 25V X5R 0603  Supplier Part Number 1: 81-GRM188R61E225MA2D
CAP CER 2.2UF 25V X5R 0603; Manufacturer 1: Murata; Manufacturer Part Number 1: GRM188R61E225MA12D; Tolerance: 20%; Supplier 1: Mouser; Stock 1: 103424; Pricing 1: 1=0,16000, 10=0,11500, 50=0,11500, 100=0,05400, 1000=0,03200, 10000=0,02300 (USD); RoHS: Yes; Mount: Surface Mount; Case/Package: 0603; Weight: 0.000222oz; Case Code (Metric): 1608; Case Code (Imperial): 0603; Min Operating Temperature: -55°C; Max Operating Temperature: 85°C; Capacitance: 2.2uF; Packaging: Tape and Reel; Voltage Rating: 25V; Dielectric: X5R; Termination: SMD/SMT; Composition: Ceramic; Voltage Rating (DC): 25V; Package Quantity: 4000; Length: 0.063inch; Height: 0.8mm; Width: 0.031inch; Thickness: 0.035inch; ComponentLink1URL: http://www.mouser.com/ds/2/281/c02e-2905.pdf?src-supplier=Mouser; ComponentLink1Description: http://www.mouser.com/ds/2/281/c02e-2905.pdf?src-supplier=Mouser; ComponentLink2URL: http://search.murata.co.jp/Ceramy/image/img/A01X/G101/ENG/GRM188R61E225MA12-01.pdf?src-supplier=Digi-Key; ComponentLink2Description: http://search.murata.co.jp/Ceramy/image/img/A01X/G101/ENG/GRM188R61E225MA12-01.pdf?src-supplier=Digi-Key
footprint C 0603/1608
pins: 1, 2

## Header 3Pin
designator J?, comment Female 3PIN 2.54mm
3PIN header Female 2.54mm; Supplier Part Number 1: A MANO
footprint header 3*2.54mm
pins: 1, 2, 3

## Header 10(2Row)Pin
designator J?, comment Female 10(2Row)PIN 2.54mm
10 (2 row)PIN header Female 2.54mm; Supplier Part Number 1: A MANO
footprint Header 5*2 2.54mm
pins: 1, 2, 3, 4, 5, 6, 7, 8, 9, 10

## Jumper_PCB
designator J?, comment Jumper Solder PCB
footprint Jumper_PCB
pins: 1, 2

## LR2512-23R010F4
designator RSENSE?, comment Sense Resistor 0.01Ohm 3W 2512 1%
Low Resistors & Current Sense Resistors - Surface Mount 0.01Ohms ±1% 3W 2512 RoHS
footprint R2512
pins: 1, 2

## m3 Standoff
designator HARD?, comment 10Pack standoff nut m3x3mm
Manufacturer Part Number 1: 485-4207
text: Solder; Nut

## M50-3530442
designator J?, comment 4PIN Header 1.27mm  Supplier Part Number 1: 855-M50-3530442
CONN HEADER VERT 4POS 1.27MM; Manufacturer 1: Harwin; Manufacturer Part Number 1: M50-3530442; Supplier 1: Mouser; RoHS: No; Category: Headers and Wire Housings; Stock 1: 5692; Pricing 1: 1=0,16000, 10=0,12100, 100=0,10400, 250=0,09300, 500=0,08800, 1000=0,07200 (USD); ComponentLink1URL: https://cdn.harwin.com/pdfs/M50-353.pdf?src-supplier=Digi-Key; ComponentLink1Description: https://cdn.harwin.com/pdfs/M50-353.pdf?src-supplier=Digi-Key
footprint HDRV4W40P0X127_1X4_508X210X420P
pins: 1, 2, 3, 4

## M52-040023W0545
designator J?, comment Header 5x2 1.27mm pitch Macho  Supplier Part Number 1: 855-M52-040023W0545
Board-To-Board Connector, Vertical, Archer M52 Series, Through Hole, Header, 10, 1.27 mm; Manufacturer 1: Harwin; Manufacturer Part Number 1: M52-040023W0545; Number of Contacts: 10; Current Rating: 1A; Voltage Rating: 500V; Number of Positions: 5; Gender: Male; Insulation Resistance: 1GR; Supplier 1: Mouser; RoHS: Yes; Category: Headers and Wire Housings; Stock 1: 330; Pricing 1: 1=1,28000, 10=1,02000, 100=0,89000, 500=0,80100, 1000=0,71200, 2000=0,64500 (USD); Case/Package: SIL; Contact Plating: Gold; Contact Material: Brass,Copper; Housing Material: Nylon; Number of Rows: 2; Termination: Through Hole; Contact Gender: Male; Package Quantity: 1000; Orientation: Straight; Pitch: 1.27mm; Radiation Hardening: No; REACH SVHC: No SVHC; Flammability Rating: UL94 V-0; ComponentLink1URL: https://datasheet.ciiva.com/11749/0900766b80da65b8-11749045.pdf?src-supplier=RSComponents; ComponentLink1Description: https://datasheet.ciiva.com/11749/0900766b80da65b8-11749045.pdf?src-supplier=RSComponents; ComponentLink2URL: https://datasheet.ciiva.com/8047/94612-8047116.pdf?src-supplier=Element14; ComponentLink2Description: https://datasheet.ciiva.com/8047/94612-8047116.pdf?src-supplier=Element14
footprint HDRV10W45P127_2X5_635X343X575P (Footprint not found)
pins: 1, 2, 3, 4, 5, 6, 7, 8, 9, 10

## MAX98307ETE+T
designator U?, comment Stereo DG 3.3W MONO  Supplier Part Number 1: 700-MAX98307ETE+T
IC AMP AUD 3.3W MONO DG 16TQFN; Manufacturer 1: Maxim; Manufacturer Part Number 1: MAX98307ETE+T; Common Mode Rejection Ratio: 65dB; Nominal Supply Current: 1.85mA; Max Power Dissipation: 1.667W; Min Supply Voltage: 2.6V; Max Supply Voltage: 5.25V; Power Supply Rejection Ratio (PSRR): 78dB; Max Output Current: 800mA; Supplier 1: Mouser; RoHS: Yes; Category: Amplifiers - Audio; Stock 1: 6006; Pricing 1: 1=1,73000, 10=1,55000, 25=1,47000, 50=1,46000, 100=1,17000, 250=1,03000 (USD); Mount: Surface Mount; Number of Pins: 16; Contact Plating: Tin,Matte; Min Operating Temperature: -40°C; Max Operating Temperature: 85°C; Package Quantity: 1; Packaging: Tape and Reel; Output Power: 3.3W; Max Output Power: 3.3W; Radiation Hardening: No; ComponentLink1URL: https://datasheet.ciiva.com/12300/max98307-max98308-111199-12300835.pdf?src-supplier=Mouser; ComponentLink1Description: https://datasheet.ciiva.com/12300/max98307-max98308-111199-12300835.pdf?src-supplier=Mouser; ComponentLink2URL: https://datasheet.ciiva.com/2968/max98307-max98308-2968008.pdf?src-supplier=Avnet; ComponentLink2Description: https://datasheet.ciiva.com/2968/max98307-max98308-2968008.pdf?src-supplier=Avnet; ComponentLink3URL: https://datasheet.ciiva.com/1789/max98307-max98308-1789883.pdf?src-supplier=Digi-Key; ComponentLink3Description: https://datasheet.ciiva.com/1789/max98307-max98308-1789883.pdf?src-supplier=Digi-Key; ComponentLink4URL: https://datasheet.ciiva.com/1789/max98307-max98308-1789884.pdf?src-supplier=Digi-Key; ComponentLink4Description: https://datasheet.ciiva.com/1789/max98307-max98308-1789884.pdf?src-supplier=Digi-Key; ComponentLink5URL: https://datasheet.ciiva.com/1789/max98307-max98308-1789885.pdf?src-supplier=Digi-Key; ComponentLink5Description: https://datasheet.ciiva.com/1789/max98307-max98308-1789885.pdf?src-supplier=Digi-Key
footprint QFN50P300X300X80-17N (Footprint not found)
pins: 1 ~{SHDN}, 2 GND_1, 3 PVDD, 4 OUT+, 5 OUT-, 6 PGND, 7 SVSS, 8 N.C., 9 FB-, 10 IN-, 11 IN+, 12 FB+, 13 VCC, 14 PVSS, 15 C1N, 16 C1P, 17 GND_2

## MBR0520L
designator D?, comment 20V 500mA SOD123  Supplier Part Number 1: 512-MBR0520L
DIODE SCHOTTKY 20V 500MA SOD123; Manufacturer 1: ON Semiconductor / Fairchild; Manufacturer Part Number 1: MBR0520L; Element Configuration: Single; Forward Voltage: 385mV; Max Surge Current: 5.5A; Peak Reverse Current: 250uA; Polarity: Standard; Current Rating: 500A; Power Dissipation: 400mW; Capacitance: 4pF; Supplier 1: Mouser; Stock 1: 321815; Pricing 1: 1=0.19000, 10=0.18100, 50=0.18100, 100=0.06300, 1000=0.04200, 3000=0.03200, 9000=0.02800, 10000=0.02800, 24000=0.02500, 45000=0.02200, 99000=0.02100 (USD); RoHS: Yes; Mount: Surface Mount; Number of Pins: 2; Weight: 0.03g; Min Operating Temperature: -65°C; Max Operating Temperature: 125°C; Packaging: Tape and Reel; Package Quantity: 3000; Average Rectified Current: 500mA; Max Reverse Voltage (DC): 20V; Max Forward Surge Current (Ifsm): 5.5A; Forward Current: 500mA; Max Repetitive Reverse Voltage (Vrrm): 20V; Peak Non-Repetitive Surge Current: 5.5A; Max Reverse Leakage Current: 250uA; Voltage Rating (DC): 20V; Output Current: 500mA; Length: 2.7mm; Height: 1.03mm; Width: 1.6mm; Radiation Hardening: No; Lead Free: Lead Free; REACH SVHC: No SVHC; ComponentLink1URL: https://datasheet.ciiva.com/5739/1684450-5739282.pdf?src-supplier=Farnell; ComponentLink1Description: https://datasheet.ciiva.com/5739/1684450-5739282.pdf?src-supplier=Farnell; ComponentLink2URL: https://datasheet.ciiva.com/4714/mbr0520l-67539-4714709.pdf?src-supplier=Mouser; ComponentLink2Description: https://datasheet.ciiva.com/4714/mbr0520l-67539-4714709.pdf?src-supplier=Mouser; ComponentLink3URL: https://datasheet.ciiva.com/34301/871594-34301628.pdf?src-supplier=Jameco; ComponentLink3Description: https://datasheet.ciiva.com/34301/871594-34301628.pdf?src-supplier=Jameco; ComponentLink4URL: https://datasheet.ciiva.com/7965/48015-7965151.pdf?src-supplier=Element14; ComponentLink4Description: https://datasheet.ciiva.com/7965/48015-7965151.pdf?src-supplier=Element14; ComponentLink5URL: https://datasheet.ciiva.com/910/mbr0520l-910540.pdf?src-supplier=Digi-Key; ComponentLink5Description: https://datasheet.ciiva.com/910/mbr0520l-910540.pdf?src-supplier=Digi-Key; ComponentLink6URL: https://datasheet.ciiva.com/26230/mbr0520l-26230988.pdf?src-supplier=Avnet+Europe; ComponentLink6Description: https://datasheet.ciiva.com/26230/mbr0520l-26230988.pdf?src-supplier=Avnet+Europe; ComponentLink7URL: https://datasheet.ciiva.com/910/mbr0520l-910541.pdf?src-supplier=Digi-Key; ComponentLink7Description: https://datasheet.ciiva.com/910/mbr0520l-910541.pdf?src-supplier=Digi-Key; ComponentLink8URL: https://datasheet.ciiva.com/16985/mbr0520l-16985725.pdf?src-supplier=Future+Electronics; ComponentLink8Description: https://datasheet.ciiva.com/16985/mbr0520l-16985725.pdf?src-supplier=Future+Electronics; ComponentLink9URL: https://datasheet.ciiva.com/910/mbr0520l-910542.pdf?src-supplier=Digi-Key; ComponentLink9Description: https://datasheet.ciiva.com/910/mbr0520l-910542.pdf?src-supplier=Digi-Key
footprint SOD-123
pins: 1 K, 2 A

## MLZ2012N100LT000
designator L?, comment 10uH 500mA 0805  Supplier Part Number 1: 810-MLZ2012N100LT000
FIXED IND 10UH 500MA 300 MOHM; Manufacturer 1: TDK; Manufacturer Part Number 1: MLZ2012N100LT000; Core Material: Ferrite; Tolerance: 20%; Saturation Current: 110mA; Shielding: Shielded; DC Resistance (DCR): 390mR; Self Resonant Frequency: 50MHz; Test Frequency: 2MHz; Supplier 1: Mouser; Stock 1: 98073; Pricing 1: 1=0.14000, 10=0.09800, 50=0.09800, 100=0.08800, 500=0.07600, 1000=0.06600, 2000=0.04300, 10000=0.04000, 24000=0.03900, 50000=0.03700 (USD); RoHS: Yes; Mount: Surface Mount; Case/Package: 0805; Case Code (Metric): 2012; Case Code (Imperial): 0805; Min Operating Temperature: -55°C; Max Operating Temperature: 125°C; Package Quantity: 1; Packaging: Tape and Reel; Current Rating: 500mA; Inductance: 10uH; Length: 0.079inch; Width: 0.049inch; Height - Seated (Max): 0.057inch; ComponentLink1URL: https://datasheet.ciiva.com/29690/inductor-commercial-decoupling-mlz-en-29690412.pdf?src-supplier=Digi-Key; ComponentLink1Description: https://datasheet.ciiva.com/29690/inductor-commercial-decoupling-mlz-en-29690412.pdf?src-supplier=Digi-Key; ComponentLink2URL: https://datasheet.ciiva.com/29690/inductor-commercial-decoupling-mlz-en-29690411.pdf?src-supplier=Digi-Key; ComponentLink2Description: https://datasheet.ciiva.com/29690/inductor-commercial-decoupling-mlz-en-29690411.pdf?src-supplier=Digi-Key; ComponentLink3URL: https://datasheet.ciiva.com/29690/inductor-commercial-decoupling-mlz-en-29690413.pdf?src-supplier=Digi-Key; ComponentLink3Description: https://datasheet.ciiva.com/29690/inductor-commercial-decoupling-mlz-en-29690413.pdf?src-supplier=Digi-Key
footprint L 0805/2012
pins: 1, 2

## MP1541DJ-LF-Z
designator U?, comment Boost Display Vias
Switching Voltage Regulators 1.3MHz, 22V Step-up Converter; Manufacturer 1: Monolithic Power Systems; Manufacturer Part Number 1: MP1541DJ-LF-Z; Number of Outputs: 1; Min Input Voltage: 2.5V; Max Input Voltage: 6V; Min Output Voltage: 3V; Output Current: 300mA; Synchronous Rectifier: No; Max Output Current: 1.9A; Output Type: Adjustable; Output Configuration: Positive; Supplier 1: Mouser; Stock 1: 1452; Pricing 1: 1=1.93000, 10=1.55000, 50=1.55000, 100=1.24000, 500=1.09000, 1000=0.89900, 3000=0.83800, 6000=0.80700, 9000=0.77500, 10000=0.77500, 24000=0.76300 (USD); RoHS: Yes; Mount: Surface Mount; Case/Package: SOT-23-5; Number of Pins: 5; Contact Plating: Tin; Min Operating Temperature: -40°C; Max Operating Temperature: 85°C; Package Quantity: 3000; Packaging: Tape and Reel; Output Voltage: 22V; Max Output Voltage: 22V; Switching Frequency: 1.3MHz; Topology: Boost; Operating Supply Voltage: 6V; Lead Free: Lead Free; ComponentLink1URL: http://www.mouser.com/ds/2/277/MP1541_r1.32-479945.pdf?src-supplier=Mouser; ComponentLink1Description: http://www.mouser.com/ds/2/277/MP1541_r1.32-479945.pdf?src-supplier=Mouser; ComponentLink2URL: http://www.monolithicpower.com/DesktopModules/DocumentManage/API/Document/getDocument?id=870&src-supplier=Digi-Key; ComponentLink2Description: http://www.monolithicpower.com/DesktopModules/DocumentManage/API/Document/getDocument?id=870&src-supplier=Digi-Key; ComponentLink3URL: http://www.monolithicpower.com/DesktopModules/DocumentManage/API/Document/getDocument?id=870&src-supplier=Avnet+Asia; ComponentLink3Description: http://www.monolithicpower.com/DesktopModules/DocumentManage/API/Document/getDocument?id=870&src-supplier=Avnet+Asia; ComponentLink4URL: http://www.monolithicpower.com/Page/DownLoad.aspx?ListID=5ef183e9-1065-446e-b3af-7c4794c517db&&ItemID=7&src-supplier=Avnet; ComponentLink4Description: http://www.monolithicpower.com/Page/DownLoad.aspx?ListID=5ef183e9-1065-446e-b3af-7c4794c517db&&ItemID=7&src-supplier=Avnet; Supplier Part Number 1: 946-MP1541DJLFZ
footprint SOT-23-5 (SOT23, 3-Leads, Body 2.92x1.3mm, Pitch 0.95mm)
pins: 1 SW, 2 GND, 3 FB, 4 EN, 5 V_IN

## NR6028T2R2N
designator L?, comment 2.2 3.7A 6028 Inductor  Supplier Part Number 1: 963-NR6028T2R2N
FIXED IND 2.2UH 3.7A 26 MOHM SMD; Manufacturer: Taiyo Yuden; Manufacturer Part Number: NR6028T2R2N; Core Material: Ferrite; DC Resistance (DCR): 26mR; Test Frequency: 100kHz; Saturation Current: 4.2A; Tolerance: 30%; Shielding: Shielded; Self Resonant Frequency: 68MHz; Supplier 1: Mouser; RoHS: Yes; Category: Fixed Inductors; Stock 1: 45812; Mount: Surface Mount; Case/Package: 2424; Number of Pins: 2; Min Operating Temperature: -25°C; Max Operating Temperature: 120°C; Composition: Wirewound; Inductance: 2.2uH; Max DC Current: 3.7A; Termination: SMD/SMT; RMS Current (Irms): 3.7A; Package Quantity: 2000; Current Rating: 3.7A; Packaging: Tape and Reel; Inductance Tolerance: 30%; Length: 0.236inch; Height: 2.8mm; Height - Seated (Max): 0.11inch; Depth: 6.2mm; Width: 0.236inch; Radiation Hardening: No; Halogen Free: Halogen Free; REACH SVHC: Unknown; ComponentLink1URL: https://datasheet.ciiva.com/7291/nr6028t2r2n-ss-7291637.pdf?src-supplier=Newark; ComponentLink1Description: https://datasheet.ciiva.com/7291/nr6028t2r2n-ss-7291637.pdf?src-supplier=Newark; ComponentLink2URL: https://datasheet.ciiva.com/8502/nr6028t2r2n-ss-8502679.pdf?src-supplier=Avnet; ComponentLink2Description: https://datasheet.ciiva.com/8502/nr6028t2r2n-ss-8502679.pdf?src-supplier=Avnet; ComponentLink3URL: https://datasheet.ciiva.com/15988/8nr6028t2r2n-15988110.pdf?src-supplier=Onlinecomponents.com; ComponentLink3Description: https://datasheet.ciiva.com/15988/8nr6028t2r2n-15988110.pdf?src-supplier=Onlinecomponents.com; ComponentLink4URL: https://datasheet.ciiva.com/1043/wound04-e-1043090.pdf?src-supplier=Digi-Key; ComponentLink4Description: https://datasheet.ciiva.com/1043/wound04-e-1043090.pdf?src-supplier=Digi-Key; ComponentLink5URL: https://datasheet.ciiva.com/1043/wound04-e-1043091.pdf?src-supplier=Digi-Key; ComponentLink5Description: https://datasheet.ciiva.com/1043/wound04-e-1043091.pdf?src-supplier=Digi-Key; ComponentLink6URL: https://datasheet.ciiva.com/1043/wound04-e-1043092.pdf?src-supplier=Digi-Key; ComponentLink6Description: https://datasheet.ciiva.com/1043/wound04-e-1043092.pdf?src-supplier=Digi-Key
footprint NR6028T2R2N
pins: 1, 2

## NRS3015T2R2MNGH
designator L?, comment 2.2uH 1.5A  Supplier Part Number 1: 963-NRS3015T2R2MNGH
FIXED IND 2.2UH 1.5A 58 MOHM SMD; Manufacturer 1: Taiyo Yuden; Manufacturer Part Number 1: NRS3015T2R2MNGH; Core Material: Ferrite; Saturation Current: 1.48A; Shielding: Shielded; DC Resistance (DCR): 58mR; Self Resonant Frequency: 64MHz; Test Frequency: 100kHz; Tolerance: 20%; Supplier 1: Mouser; Stock 1: 1064; Pricing 1: 1=0,34000, 10=0,26400, 50=0,26400, 100=0,19800, 1000=0,13600, 10000=0,10200 (USD); RoHS: Yes; Mount: Surface Mount; Case/Package: Nonstandard; Min Operating Temperature: -25°C; Max Operating Temperature: 120°C; Packaging: Tape and Reel; Composition: Wirewound; Inductance: 2.2uH; Current Rating: 1.5A; Length: 0.118inch; Width: 0.118inch; Height - Seated (Max): 0.059inch; ComponentLink1URL: http://www.yuden.co.jp/productdata/catalog/en/wound04_e.pdf?src-supplier=Digi-Key; ComponentLink1Description: http://www.yuden.co.jp/productdata/catalog/en/wound04_e.pdf?src-supplier=Digi-Key; ComponentLink2URL: http://ds.yuden.co.jp/TYCOMPAS/ut/detail.do?productNo=NRS3015T2R2MNGH&fileName=NRS3015T2R2MNGH_SS&mode=specSheetDownload&src-supplier=Digi-Key; ComponentLink2Description: http://ds.yuden.co.jp/TYCOMPAS/ut/detail.do?productNo=NRS3015T2R2MNGH&fileName=NRS3015T2R2MNGH_SS&mode=specSheetDownload&src-supplier=Digi-Key; ComponentLink3URL: https://ds.yuden.co.jp/TYCOMPAS/ut/detail?pn=NRS3015T2R2MNGH  &amp;u=M&src-supplier=Digi-Key; ComponentLink3Description: https://ds.yuden.co.jp/TYCOMPAS/ut/detail?pn=NRS3015T2R2MNGH  &amp;u=M&src-supplier=Digi-Key
footprint NRS3015T2R2MNGH
pins: 1, 2